# EAGLE library part MCP7940N (library SummerCart64)
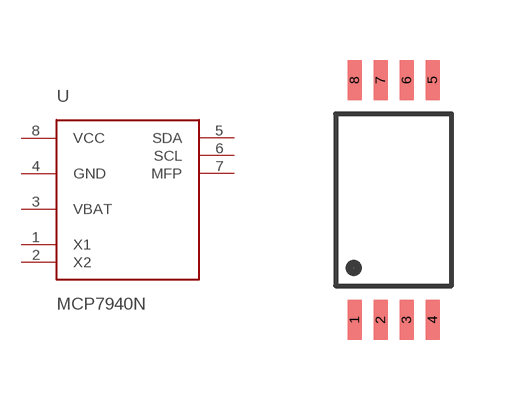
[diagram p8: symbol with the pads of TSSOP8; footprint TSSOP8]

Designator prefix U

## MCP7940N  [TSSOP8]
1  X1
2  X2
3  VBAT  pwr
4  GND  pwr
5  SDA
6  SCL
7  MFP
8  VCC  pwr

## Footprint TSSOP8 (pad centres in mm)
smd 0.35 x 1: 1 -0.975,-3; 2 -0.325,-3; 3 0.325,-3; 4 0.975,-3; 5 0.975,3; 6 0.325,3; 7 -0.325,3; 8 -0.975,3